# Altium footprint library EEEFN1J121UP.PcbLib: 1 footprints
Each footprint in its own frame and in the unit in brackets; x right, y up, seen from the top. Pads: shape width x height; smd on the part's side, far side on the other; paste and mask are expansions set on the pad; w line width, h text height; cw(c..) or ccw(c..) is an arc to the next point about the centre after c.
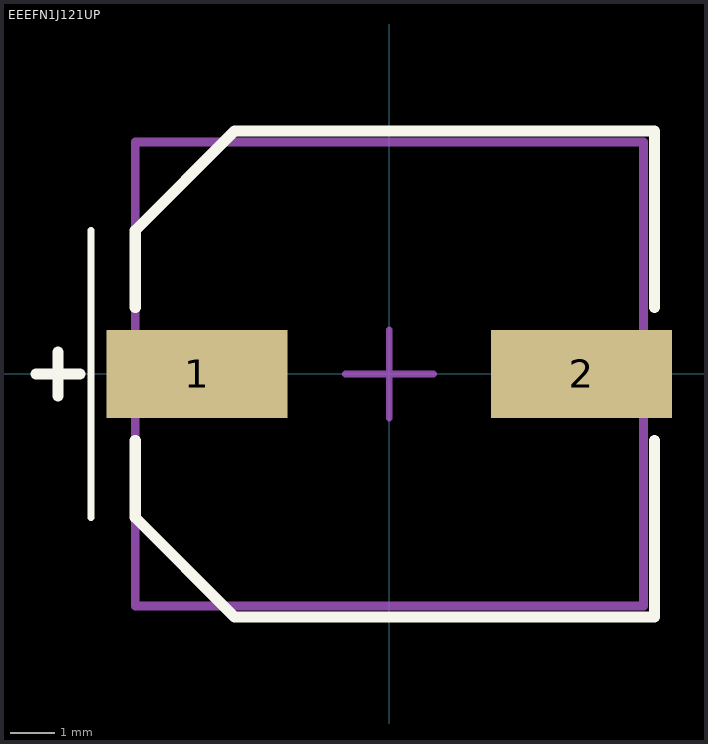
[diagram p0: the footprint, top view; thin cyan lines are the x and y axes]

## EEEFN1J121UP [mm]
pads (2):
  rect 4.1x2 smd mask+0.051: 1(-4.35,0) 2(4.35,0)
Top Overlay:
  lines w0.15: -6.75,-3.25 -6.75,3.25
  lines w0.25: -8,0 -7.5,0 ; -5.75,-1.5 -5.75,-1.875 -5.75,-3.25 -3.5,-5.5 6,-5.5 6,-1.5 ; -5.75,1.5 -5.75,2.75 -5.75,3.25 -3.5,5.5 6,5.5 6,1.5 ; -7.5,0 -7,0 -7.5,0 ; -7.5,0 -7.5,0.5 -7.5,0 ; -7.5,0 -7.5,-0.5 -7.5,0
Mechanical 13:
  lines w0.2: -5.75,-5.25 5.75,-5.25 5.75,5.25 -5.75,5.25 -5.75,-5.25
Mechanical 15:
  lines w0.15: 0,-1 0,0 ; 0,0 -1,0 0,0 ; 0,0 0,1 0,0 ; 0,0 1,0 0,0
3D body "EEE-FN1J121UP.stp": height 10.21, standoff 0.01, extent -5.85,-5.15 5.85,5.15